# Altium integrated library Discrete_Semiconductor.IntLib: 14 symbols
Pins are listed as number, name and electrical type; pins without a type are passive.

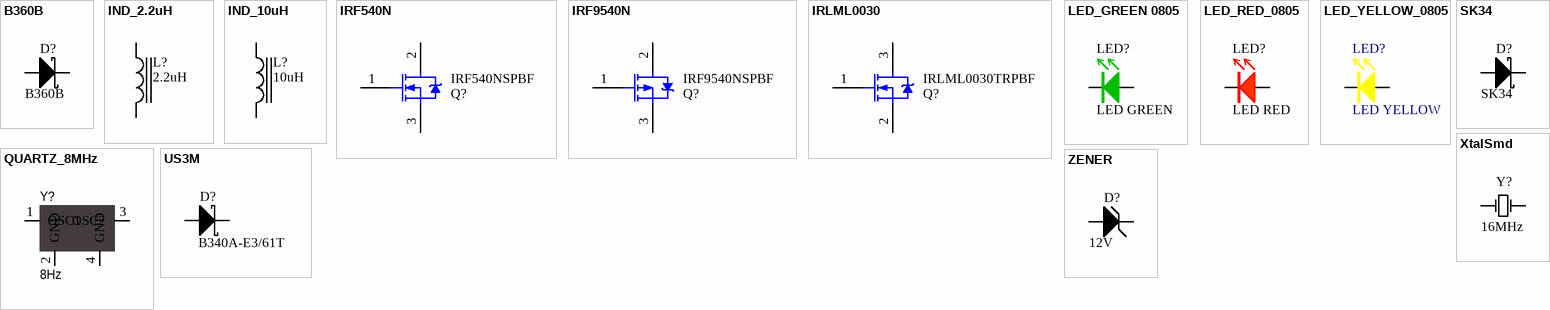
[diagram p0: symbols B360B to ZENER]

## B360B
designator D?
DIODE SCHOTTKY 60V 3A DO214AC; Manufacturer: Vishay Semiconductor Diodes Division; Barcode: 0100000007488; id: 62; Assembly: SMD; Speed: Fast Recovery =< 500ns, > 200mA (Io); Voltage  Forward: 550mV @ 3A; item_id: 1025; Recommended Rating: Silver; Manufacturer Part Number: B360B; Category: Discrete Semiconductor Products; Datasheet URL: http://www.vishay.com/docs/88896/b330la.pdf; Package Case: DO-214AC, SMA; Family: DIODE; Voltage  DC Reverse: 60V; Current  Average Rectified: 3A; Diode Type: Schottky; Part Type: Discrete Semiconductors
footprint DO214AC (Diode,Molded Body;5.105mm L X 2.665mm W X 2.29mm H)
pins: 1 Cathode, 2 Anode

## IND_2.2uH
designator L?, comment 2.2uH
FIXED IND 10uH 3A; Manufacturer: Coilcraft; Manufacturer Part Number: XAL7030-103MEB; Assembly: SMD; Tolerance: 20%; DC Resistance: 45mOhm; Category: Inductors, Coils, Chokes; Datasheet URL: http://www.mouser.com/ds/2/597/MSS7348-1076571.pdf; Package Case: 8x8mm; Inductance: 2.2uH; Current Rating: 3A; Family: INDUCTOR; Part Type: Inductor, Transf, Filter, Ferrite; Product Page Mouser: https://eu.mouser.com/ProductDetail/Coilcraft/MSS7348-103MEB/?qs=sGAEpiMZZMsg%252by3WlYCkU%252bbmGPYv72aIHZue6QQJkp0%3d
footprint INDUCTOR_SS1260-103MLD
pins: 1, 2

## IND_10uH
designator L?, comment 10uH
FIXED IND 10uH 3A; Manufacturer: Coilcraft; Manufacturer Part Number: XAL7030-103MEB; Assembly: SMD; Tolerance: 20%; DC Resistance: 45mOhm; Category: Inductors, Coils, Chokes; Datasheet URL: http://www.mouser.com/ds/2/597/MSS7348-1076571.pdf; Package Case: 8x8mm; Inductance: 10uH; Current Rating: 3A; Family: INDUCTOR; Part Type: Inductor, Transf, Filter, Ferrite; Product Page Mouser: https://eu.mouser.com/ProductDetail/Coilcraft/MSS7348-103MEB/?qs=sGAEpiMZZMsg%252by3WlYCkU%252bbmGPYv72aIHZue6QQJkp0%3d
footprint MSS7348-103MEB
footprint INDUCTOR_SS1260-103MLD
pins: 1, 2

## IRF540N
designator Q?, comment IRF540NSPBF
N-MOS; Manufacturer: INTERNATIONAL RECTIFIER; Manufacturer Part Number: IRF540NSPBF; Order Code: IRF540NS; Package: TO-263 SMD; Price: DIN 62.54; Supplier: Comet.rs
footprint D2PAK-2
footprint TO-220 (TO, Thru-Hole, Vertical, Heatsink Mounted; 3 In-Line Leads; Pitch 2.54 mm)
pins: 1 G, 2 D, 3 S

## IRF9540N
designator Q?, comment IRF9540NSPBF
P-MOS; Manufacturer: INTERNATIONAL RECTIFIER; Manufacturer Part Number: IRF9540NSPBF; Order Code: IRF9540NS; Package: TO-263 SMD; Price: DIN 62.54; Supplier: Comet.rs
footprint D2PAK-2
footprint TO-220 (TO, Thru-Hole, Vertical, Heatsink Mounted; 3 In-Line Leads; Pitch 2.54 mm)
pins: 1 G, 2 D, 3 S

## IRLML0030
designator Q?, comment IRLML0030TRPBF
N-MOS; Manufacturer: INFINEON; Manufacturer Part Number: IRLML0030TRPBF; Order Code: IRLML0030; Package: SOT-23; Price: 0.11; Supplier: Comet.rs
footprint SOT-23
pins: 1 G, 2 D, 3 S

## LED_GREEN 0805
designator LED?, comment LED GREEN
LED GREEN CLEAR 0805 SMD; Manufacturer: Kingbright; Manufacturer Part Number: APT2012SGC; Barcode: 2911010024338; id: 28; Voltage Forward: 2.2V; Wavelength: 568nm; Lens Color: Colorless; item_id: 3342; Recommended Rating: Platinum; Category: Optoelectronics; Assembly: SMD; Datasheet URL: http://www.kingbrightusa.com/images/catalog/SPEC/APT2012SGC.pdf; Package Case: 0805 (2012 Metric); Color: Green; Family: LED; Lens Transparency: Clear; Part Type: Optoelectronics
footprint LED_GREEN_0805 (Diode GREEN;2.00mm L X 1.25mm W X 1.20mm H)
pins: 1 C, 2 A

## LED_RED_0805
designator LED?, comment LED RED
LED RED 0805; Manufacturer: BRIGHT LED ELECTRONICS; Manufacturer Part Number: BL-HUB35A-AV-TRB; Barcode: 2911010024321; id: 35; Assembly: SMD; Voltage Forward: 2.0 V; item_id: 3341; Recommended Rating: Platinum; Package Case: 0805 (2012 Metric); Color: Red; Family: LED; Part Type: Optoelectronics
footprint LED_RED_0805 (Diode 2.00mm L X 1.25mm W X 1.20mm H)
pins: 1 C, 2 A

## LED_YELLOW_0805
designator LED?, comment LED YELLOW
LED YELLOW 0805; Manufacturer: BRIGHT LED ELECTRONICS; Manufacturer Part Number: BL-HKB35A-AV-TRB; Barcode: 2911010024345; id: 34; Assembly: SMD; Lumens: 28 mcd; Voltage Forward: 2.0 V; Wavelength: 585 nm; item_id: 3343; Recommended Rating: Gold; Package Case: 0805; Color: Yellow; Family: LED; Part Type: Optoelectronics
footprint LED_YELLOW_0805 (Diode YELLOW;2.00mm L X 1.25mm W X 1.20mm H)
pins: 1 C, 2 A

## QUARTZ_8MHz
designator Y?, comment 8Hz
CRYSTAL 8.0000MHZ 18PF SMD; Manufacturer: ABRACON; Manufacturer Part Number: ABMM2-8.000MHZ-E2-T; id: 17; Frequency Stability: ±30ppm; Equivalent Series Resistance: 72 Ohm; item_id: 4360; Category: Crystals and Oscillators; Assembly: SMD; Datasheet URL: http://www.abracon.com/Resonators/ABMM2.pdf; Package Case: 4-SMD, No Lead (DFN, LCC); Frequency: 8Hz; Frequency Tolerance: ±30ppm; Load Capacitance: 18pF; Family: CRYSTAL; Size Dimension: 0.126" L x 0.098" W (3.20mm x 2.50mm); Part Type: Crystals, Oscillators
footprint ABM10 (0.098" L x 0.079" W (2.50mm x 2.00mm))
pins: 1 OSC1, 2 GND, 3 OSC2, 4 GND

## SK34
designator D?
DIODE SCHOTTKY 40V 3A DO214AC; Manufacturer: Vishay Semiconductor Diodes Division; Barcode: 0100000007488; id: 62; Assembly: SMD; Speed: Fast Recovery =< 500ns, > 200mA (Io); Voltage  Forward: 550mV @ 3A; item_id: 1025; Recommended Rating: Silver; Manufacturer Part Number: SK34; Category: Discrete Semiconductor Products; Datasheet URL: http://www.vishay.com/docs/88896/b330la.pdf; Package Case: DO-214AC, SMA; Family: DIODE; Voltage  DC Reverse: 40V; Current  Average Rectified: 3A; Diode Type: Schottky; Part Type: Discrete Semiconductors
footprint DO214AC (Diode,Molded Body;5.105mm L X 2.665mm W X 2.29mm H)
pins: 1 Cathode, 2 Anode

## US3M
designator D?, comment B340A-E3/61T
DIODE SCHOTTKY 40V 3A DO214AC; Manufacturer: Vishay Semiconductor Diodes Division; Barcode: 0100000007488; id: 62; Assembly: SMD; Speed: Fast Recovery =< 500ns, > 200mA (Io); Voltage  Forward: 550mV @ 3A; item_id: 1025; Recommended Rating: Silver; Manufacturer Part Number: B340A-E3/61T; Category: Discrete Semiconductor Products; Datasheet URL: http://www.vishay.com/docs/88896/b330la.pdf; Package Case: DO-214AC, SMA; Family: DIODE; Voltage  DC Reverse: 40V; Current  Average Rectified: 3A; Diode Type: Schottky; Part Type: Discrete Semiconductors
footprint HEADER_2X5 (Footprint not found)
pins: 1 Cathode, 2 Anode

## XtalSmd
designator Y?, comment 16MHz
Crystal Oscillator; Order Code: Q16.000 MHz HC-49SM SMD; Published: 8-Jun-2000; LatestRevisionDate: 17-Jul-2002; LatestRevisionNote: Re-released for DXP Platform.; PackageReference: R38; Publisher: Altium Limited; Supplier: Comet.rs; Value: 16MHz
footprint OSCILATOR
pins: 1 OSC1, 2 OSC2

## ZENER
designator D?, comment 12V
DIODE ZENER; Manufacturer: Vishay Semiconductor Diodes Division; Manufacturer Part Number: B360B; Barcode: 0100000007488; id: 62; Assembly: SMD; Speed: Fast Recovery =< 500ns, > 200mA (Io); Voltage  DC Reverse: 60V; Current  Average Rectified: 3A; Voltage  Forward: 550mV @ 3A; Diode Type: Schottky; item_id: 1025; Recommended Rating: Silver; Category: Discrete Semiconductor Products; Datasheet URL: http://www.vishay.com/docs/88896/b330la.pdf; Package Case: DO-214AC, SMA; Family: DIODE; Part Type: Discrete Semiconductors; Refferent Voltage: 12V
footprint DO214AC (Diode,Molded Body;5.105mm L X 2.665mm W X 2.29mm H)
pins: 1 Cathode, 2 Anode